# Altium footprint library IrDA.PcbLib: 5 footprints
Each footprint in its own frame and in the unit in brackets; x right, y up, seen from the top. Pads: shape width x height; smd on the part's side, far side on the other; paste and mask are expansions set on the pad; w line width, h text height; cw(c..) or ccw(c..) is an arc to the next point about the centre after c.
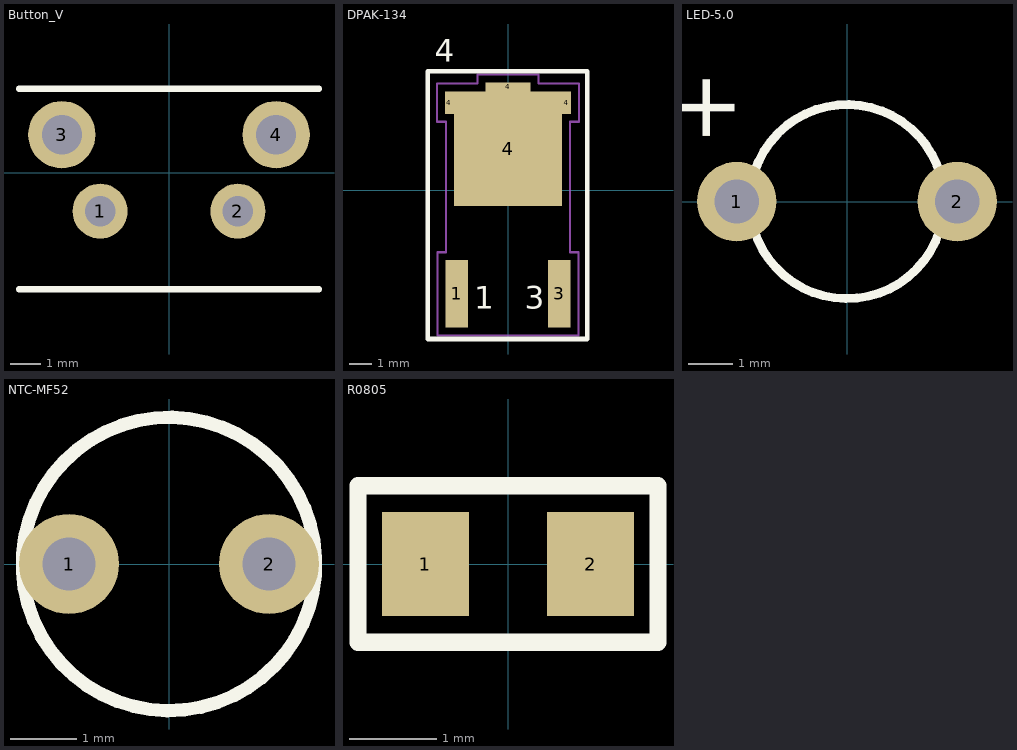
[diagram p0: the footprints below, top view; thin cyan lines are the x and y axes]

## Button_V [mm] "6.3X6.3X13.8"
height 7
pads (4):
  round 1.8 hole 1: 1(-2.25,-1.25) 2(2.25,-1.25)
  round 2.2 hole 1.3: 3(-3.5,1.25) 4(3.5,1.25)
Top Overlay:
  lines w0.2: -4.9,-3.8 4.9,-3.8 ; -4.9,2.75 4.9,2.75
3D body: height 7, standoff 0, extent -5,-13.25 5,2.85

## DPAK-134 [mm] "LD1117"
height 2.4
pads (6):
  rect 1x3 smd: 1(-2.285,-4.6) 3(2.285,-4.6)
  rect 0.4x1 smd: 4(-2.6,3.9) 4(2.6,3.9)
  rect 4.8x5.1 smd: 4(0,1.85)
  rect 2x0.4 smd: 4(0,4.6)
Top Overlay:
  lines w0.2: -3.575,-6.6 -3.575,5.3 3.525,5.3 3.525,-6.6 -3.575,-6.6
  text "3" at 0.75,-5.25 h1
  text "1" at -1.5,-5.25 h1
  text "4" at -3.25,5.725 h1
Mechanical 16:
  lines w0.1: -3.15,3.05 -2.75,3.05 -2.75,-2.75 -3.135,-2.75 -3.135,-6.45 3.135,-6.45 3.135,-2.75 2.75,-2.75 2.75,3.05 3.15,3.05 3.15,4.75 1.35,4.75 1.35,5.15 -1.35,5.15 -1.35,4.75 -3.15,4.75 -3.15,3.05
3D body: height 2.4, standoff 0, extent -3.149,-6.449 3.149,5.149

## LED-5.0 [mm]
height 10
pads (2):
  round 1.8 hole 1: 1(-2.5,0) 2(2.5,0)
Top Overlay:
  lines w0.2: -2.164,0.399 ccw(c0,0) -2.156,0.436
  text "+" at -2.54,1.27 h1.5
3D body: height 10, standoff 0, extent -2.48,-2.495 2.5,2.495

## NTC-MF52 [mm]
height 10
pads (2):
  round 1.5 hole 0.8: 1(-1.5,0) 2(1.5,0)
Top Overlay:
  lines w0.2: -2.164,0.399 ccw(c0,0) -2.156,0.436
3D body: height 10, standoff 0, extent -2.48,-2.495 2.5,2.495

## R0805 [mm]
pads (2):
  rect 1x1.2 smd: 1(-0.95,0) 2(0.95,0)
Top Overlay:
  lines w0.2: -1.725,-0.9 1.725,-0.9 1.725,0.9 -1.725,0.9 -1.725,-0.9
3D body: height 1, standoff 0, extent -1.552,-0.702 1.552,0.702